# Altium schematic symbol library TestPoint.SchLib: 2 symbols
Pins are listed as number, name and electrical type; pins without a type are passive.

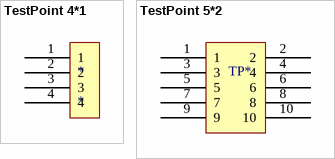
[diagram p0: symbols TestPoint 4*1 to TestPoint 5*2]

## TestPoint 4*1
designator *
footprint TestPoint 4*1
pins: 1, 2, 3, 4

## TestPoint 5*2
designator TP*
footprint TestPoint 5*2 (2.54mm 5*2)
pins: 1, 2, 3, 4, 5, 6, 7, 8, 9, 10